# EAGLE library part VINCOTECH-GPS_A1084 (library m_module)
Vincotech A1084 GPS Receiver Vincotech?s GPS modules A1084-A and A1084-B are highly integrated GPS receiver modules that can be used as SMT components. They are capable of receiving signals from up to 20 GPS satellites and transferring them into position and timing information that can be read over a serial port. This new generation of GPS modules combines small size and high-end GPS functionality at low power consumption: Operable at 3.3V / 26mA (typ.) @ 1fix per second UART interface at CMOS level Small form factor of 15.24 x 15.24 mm2 (0.6? x 0.6?) Supported temperature range: -40°C to +85°C Single-sided SMT component, for reflow soldering RoHS compliant, lead-free Tape & reel packaging Excellent antenna support The A1084 receivers are available as off-the-shelf components, 100% tested and shipped in standard tape-and-reel package.
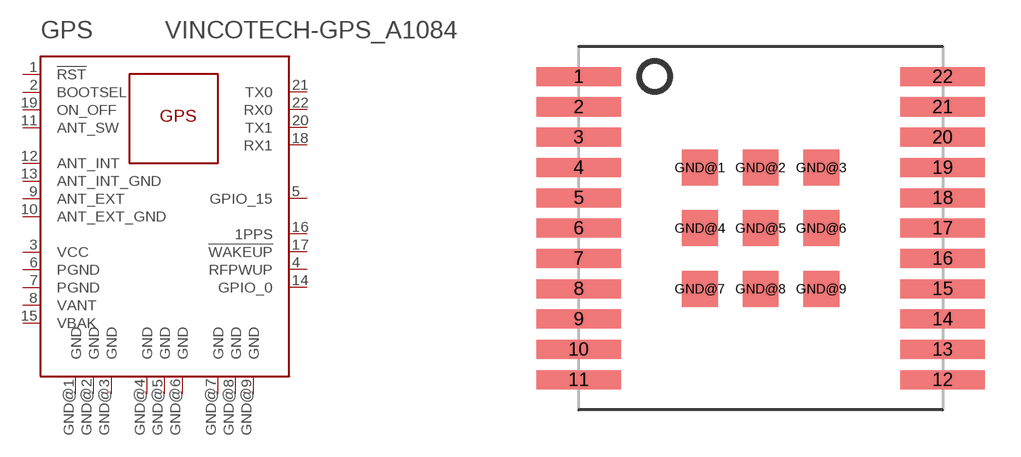
[diagram p2: symbol with the pads of A1084_GPS; footprint A1084_GPS]

Designator prefix GPS

## VINCOTECH-GPS_A1084  [A1084_GPS]
1  !RST  in
2  BOOTSEL  in
3  VCC  pas
4  RFPWUP  out
5  GPIO_15  nc
6  PGND  pas
7  PGND  pas
8  VANT  pas
9  ANT_EXT  pas
10  ANT_EXT_GND  pas
11  ANT_SW  in
12  ANT_INT  pas
13  ANT_INT_GND  pas
14  GPIO_0  out
15  VBAK  pas
16  1PPS  out
17  !WAKEUP  out
18  RX1  in
19  ON_OFF  in
20  TX1  out
21  TX0  out
22  RX0  in
GND@1  GND  pas
GND@2  GND  pas
GND@3  GND  pas
GND@4  GND  pas
GND@5  GND  pas
GND@6  GND  pas
GND@7  GND  pas
GND@8  GND  pas
GND@9  GND  pas

## Footprint A1084_GPS (pad centres in mm)
Vincotech A1084 GPS
smd 3.524 x 0.8: 1 -7.62,6.35; 2 -7.62,5.08; 3 -7.62,3.81; 4 -7.62,2.54; 5 -7.62,1.27; 6 -7.62,0; 7 -7.62,-1.27; 8 -7.62,-2.54; 9 -7.62,-3.81; 10 -7.62,-5.08; 11 -7.62,-6.35; 12 7.62,-6.35; 13 7.62,-5.08; 14 7.62,-3.81; 15 7.62,-2.54; 16 7.62,-1.27; 17 7.62,0; 18 7.62,1.27; 19 7.62,2.54; 20 7.62,3.81; 21 7.62,5.08; 22 7.62,6.35
smd 1.5 x 1.5: GND@1 -2.54,2.54; GND@2 0,2.54; GND@3 2.54,2.54; GND@4 -2.54,0; GND@5 0,0; GND@6 2.54,0; GND@7 -2.54,-2.54; GND@8 0,-2.54; GND@9 2.54,-2.54